# EAGLE library part SUBD9F (library lib_stankus)
SUB-D 9 female
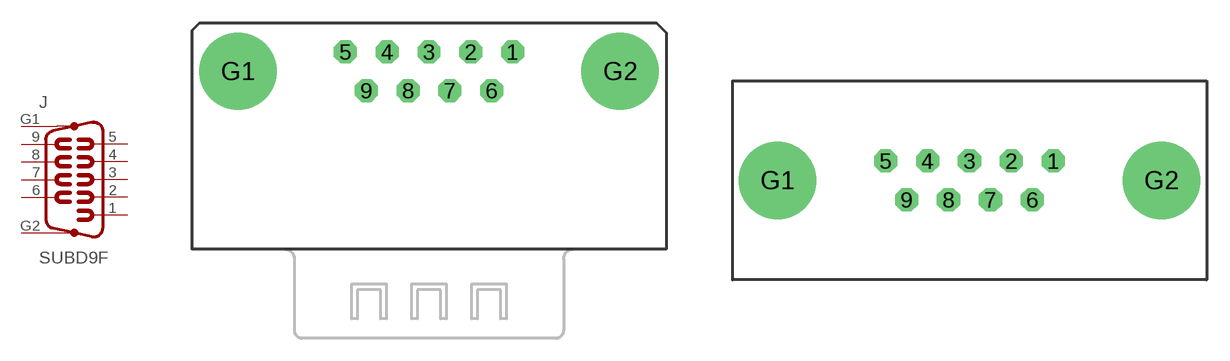
[diagram p89: symbol with the pads of SUBD9FA; footprints SUBD9FA, SUBD9F]

Designator prefix J

## SUBD9F-ANGLE  [SUBD9FA]
1  1  pas
2  2  pas
3  3  pas
4  4  pas
5  5  pas
6  6  pas
7  7  pas
8  8  pas
9  9  pas
G1  G1  pas
G2  G2  pas

## SUBD9F-STRT  [SUBD9F]
Pads as for SUBD9FA

## Footprint SUBD9FA (pad centres in mm)
SUBD 9 FEMALE ANGLED
drill 1 octagon: 1 5.486,5.08; 2 2.743,5.08; 3 0,5.08; 4 -2.743,5.08; 5 -5.486,5.08; 6 4.115,2.54; 7 1.372,2.54; 8 -1.372,2.54; 9 -4.115,2.54
drill 3.3 pad 5.08 round: G1 -12.548,3.81; G2 12.548,3.81

## Footprint SUBD9F (pad centres in mm)
SUBD 9 FEMALE
drill 1 octagon: 1 5.486,1.27; 2 2.743,1.27; 3 0,1.27; 4 -2.743,1.27; 5 -5.486,1.27; 6 4.115,-1.27; 7 1.372,-1.27; 8 -1.372,-1.27; 9 -4.115,-1.27
drill 3.3 pad 5.08 round: G1 -12.548,0; G2 12.548,0